# EAGLE library part MC100LVEP111FAG (library ON Semiconductor_By_element14_Batch_1)
Differential ECL/PECL/HSTL Clock Driver
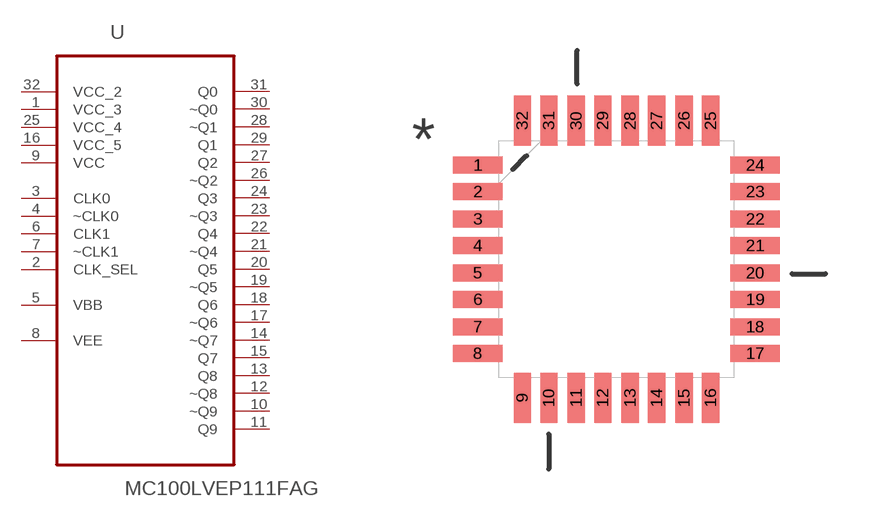
[diagram p153: symbol with the pads of QFP80P900X900X160-32N; footprint QFP80P900X900X160-32N]

Designator prefix U

## MC100LVEP111FAG (MPN: MC100LVEP111FAG; OC_FARNELL: 1607921; OC_NEWARK: 98H0648; PACKAGE: LQFP-32; SUPPLIER: ON SEMICONDUCTOR)  [QFP80P900X900X160-32N]
1  VCC_3  pwr
2  CLK_SEL  in
3  CLK0  in
4  ~CLK0  in
5  VBB  out
6  CLK1  in
7  ~CLK1  in
8  VEE  pas
9  VCC  pwr
10  ~Q9  out
11  Q9  out
12  ~Q8  out
13  Q8  out
14  ~Q7  out
15  Q7  out
16  VCC_5  pwr
17  ~Q6  out
18  Q6  out
19  ~Q5  out
20  Q5  out
21  ~Q4  out
22  Q4  out
23  ~Q3  out
24  Q3  out
25  VCC_4  pwr
26  ~Q2  out
27  Q2  out
28  ~Q1  out
29  Q1  out
30  ~Q0  out
31  Q0  out
32  VCC_2  pwr

## Footprint QFP80P900X900X160-32N (pad centres in mm)
smd 1.473 x 0.508: 1 -4.115,2.794; 2 -4.115,2.007; 3 -4.115,1.194; 4 -4.115,0.406; 5 -4.115,-0.406; 6 -4.115,-1.194; 7 -4.115,-2.007; 8 -4.115,-2.794; 17 4.115,-2.794; 18 4.115,-2.007; 19 4.115,-1.194; 20 4.115,-0.406; 21 4.115,0.406; 22 4.115,1.194; 23 4.115,2.007; 24 4.115,2.794
smd 0.508 x 1.473: 9 -2.794,-4.115; 10 -2.007,-4.115; 11 -1.194,-4.115; 12 -0.406,-4.115; 13 0.406,-4.115; 14 1.194,-4.115; 15 2.007,-4.115; 16 2.794,-4.115; 25 2.794,4.115; 26 2.007,4.115; 27 1.194,4.115; 28 0.406,4.115; 29 -0.406,4.115; 30 -1.194,4.115; 31 -2.007,4.115; 32 -2.794,4.115